# EAGLE library part 614105150721 (library Input-Output_Connectors_rev15d)
WR-COM_USB_Micro Type B_Vertical_THT; Micro Type B Vertical THT- Tape & Reel not for Pick & Place machine Code : Con_I-O_COM_USB_2.0_B_614105150721_614105150721 <http://katalog.we-online.de/media/images/eican/Con_I-O_COM_USB_2.0_B_614105150721_pf2.jpg> Details see: http://katalog.we-online.de/em/datasheet/614105150721.pdf Created 12/08/2014, Dan Xu 2014 (C) Wurth Elektronik
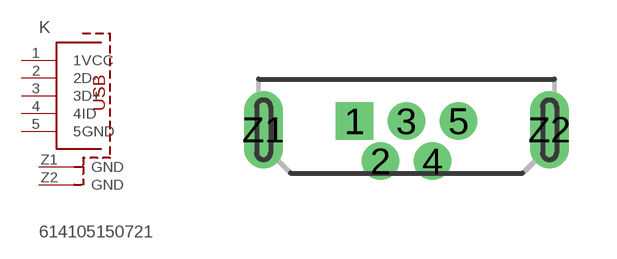
[diagram p156: symbol with the pads of 614105150721; footprint 614105150721]

Designator prefix K

## 614105150721  [614105150721]
1  1VCC  pas
2  2D-  pas
3  3D+  pas
4  4ID  pas
5  5GND  pas
Z1  GND
Z2  GND

## Footprint 614105150721 (pad centres in mm)
614105150721 WR-COM_USB_Micro Type B_Vertical_THT Micro Type B Vertical THT- Tape & Reel not for Pick & Place machine
drill 0.44 pad 0.94 square: 1 2.275,0.22
drill 0.44 pad 0.94: 2 2.925,-0.78; 3 3.575,0.22; 4 4.225,-0.78; 5 4.875,0.22
drill 0.35 pad 0.97 long: Z1 0,0; Z2 7.15,0